# Altium footprint library 56000001319.PcbLib: 1 footprints
Each footprint in its own frame and in the unit in brackets; x right, y up, seen from the top. Pads: shape width x height; smd on the part's side, far side on the other; paste and mask are expansions set on the pad; w line width, h text height; cw(c..) or ccw(c..) is an arc to the next point about the centre after c.
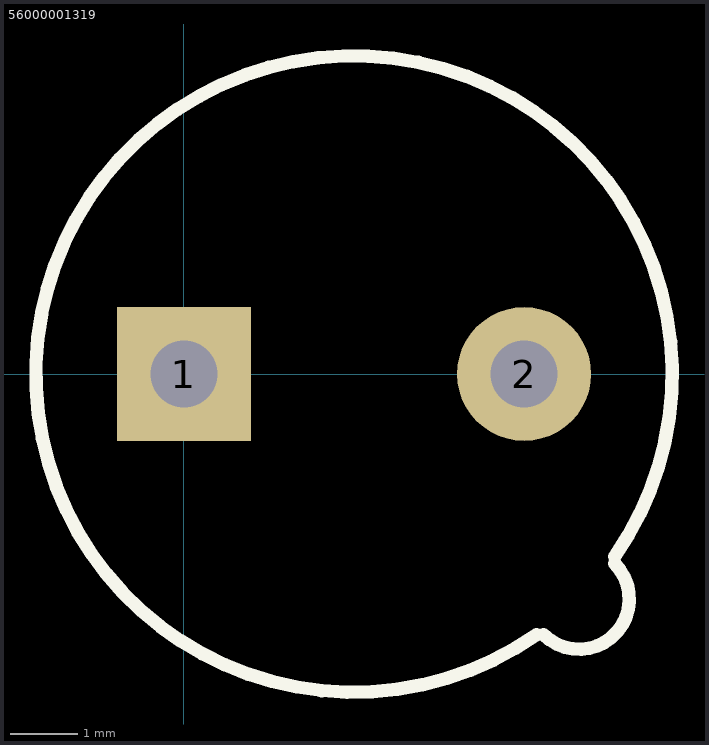
[diagram p0: the footprint, top view; thin cyan lines are the x and y axes]

## 56000001319 [mm] "TR5/TE5 Fuse Holder"
pads (2):
  rect 2x2 hole 1: 1(0,0)
  round 2 hole 1: 2(5.08,0)
Top Overlay:
  lines w0.2: 5.264,-3.891 cw(c2.54,0) 6.431,-2.724 ; 5.37,-3.89 ccw(c5.9,-3.36) 6.43,-2.83